# Altium footprint library libreriaPcb.PcbLib: 683 footprints (part 29 of 44)
Each footprint in its own frame and in the unit in brackets; x right, y up, seen from the top. Pads: shape width x height; smd on the part's side, far side on the other; paste and mask are expansions set on the pad; w line width, h text height; cw(c..) or ccw(c..) is an arc to the next point about the centre after c.
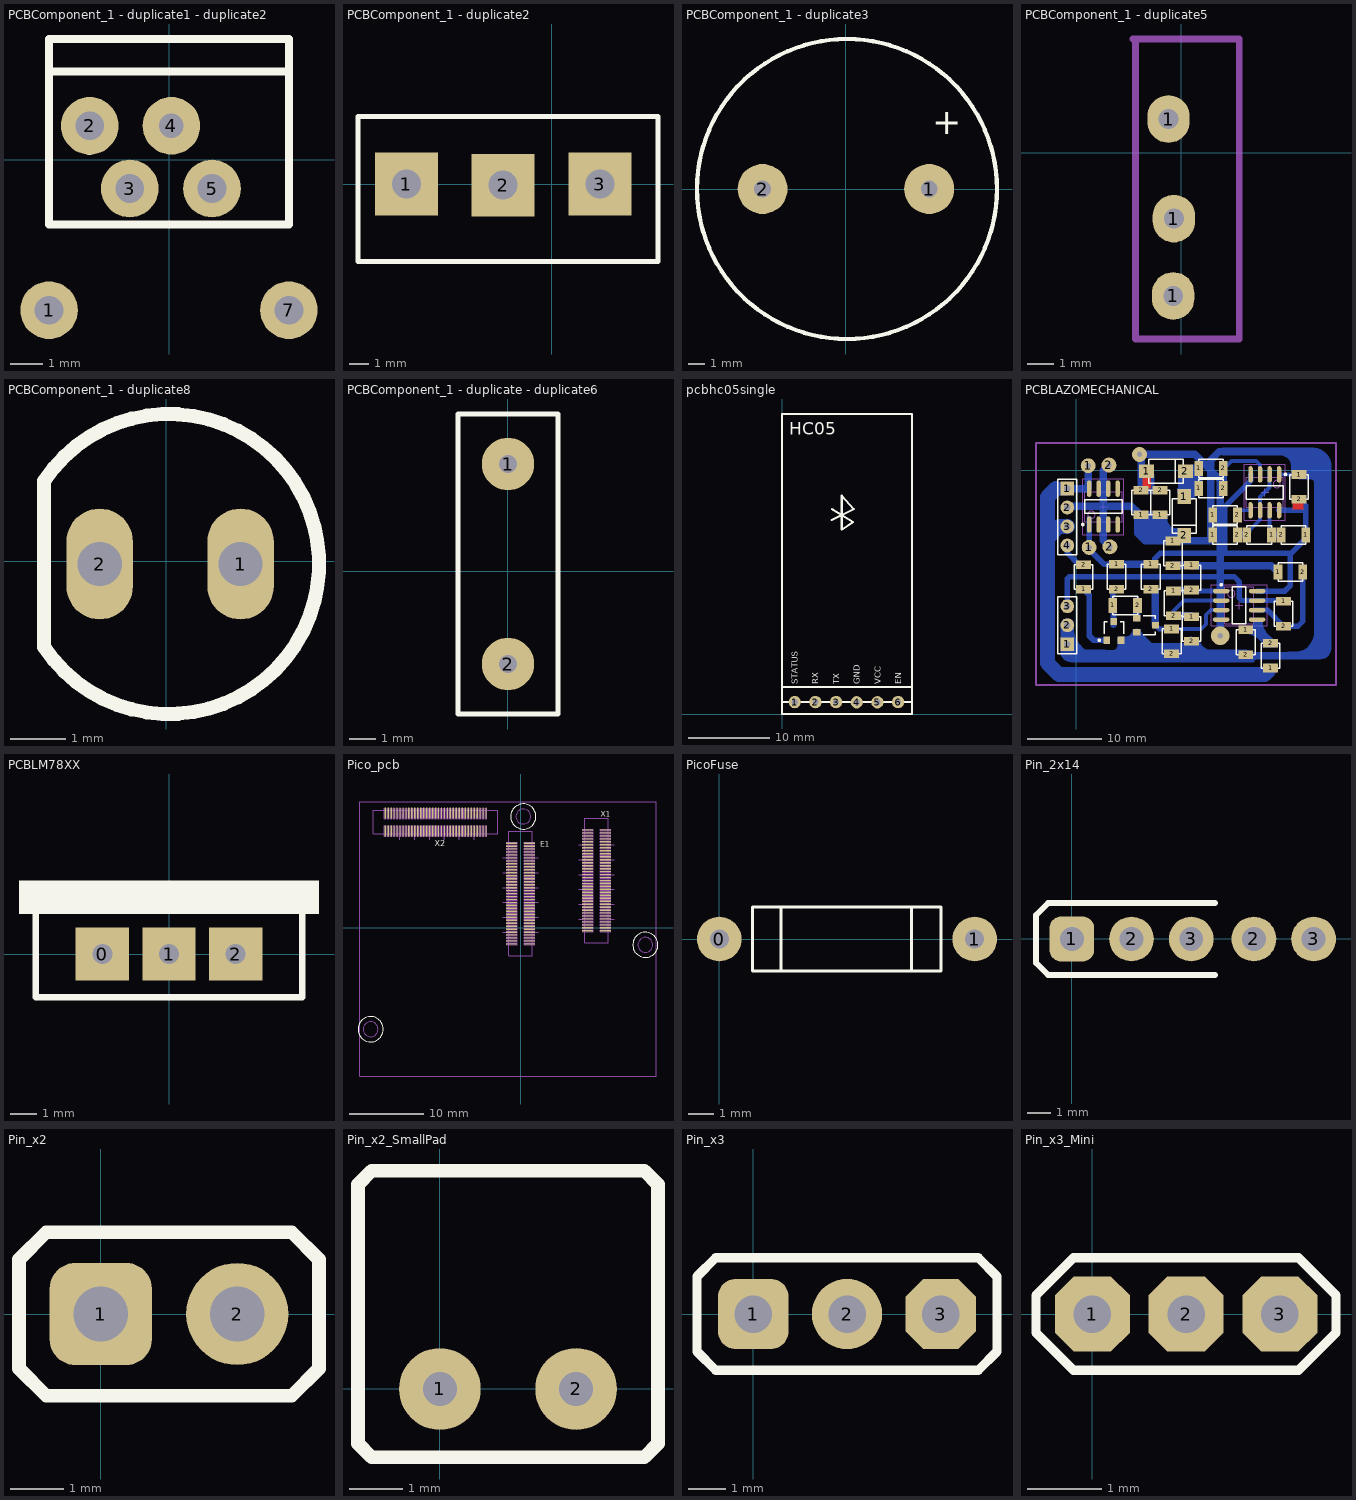
[diagram p28: the footprints below, top view; thin cyan lines are the x and y axes]

## PCBComponent_1 - duplicate1 - duplicate2 [mm]
pads (6):
  round 1.8 hole 0.9: 1(-3.759,-4.693) 2(-2.489,1.067) 3(-1.239,-0.893) 5(1.331,-0.893) 7(3.731,-4.693)
  round 1.8 hole 0.762: 4(0.061,1.067)
Top Overlay:
  lines w0.254: -3.679,3.777 3.731,3.777 ; -2.783,3.773 -3.759,3.773 -3.759,2.757 ; -2.509,0.287 -2.489,0.287 ; 2.841,3.777 3.731,3.777 ; -3.759,2.757 -3.759,-2.013 3.731,-2.013 3.731,2.757 ; -3.759,2.757 3.731,2.757 ; 3.731,2.757 3.731,3.777
3D body: height 3.8, standoff 2.2, extent 2.896,-4.642 4.496,-0.642
3D body: height 3.7, standoff 0, extent 2.918,-5.55 4.518,-3.95
3D body: height 3.7, standoff 0, extent -4.499,-5.499 -2.899,-3.899
3D body: height 5, standoff 0, extent 0.53,-1.739 2.13,-0.14
3D body: height 5, standoff 0, extent -2.035,-1.714 -0.435,-0.115
3D body: height 5, standoff 0, extent -0.791,0.267 0.809,1.866
3D body: height 13, standoff 5, extent -3.759,-2.013 3.731,3.773
3D body: height 19, standoff 13, extent -3.785,2.757 3.705,3.777
3D body: height 5, standoff 0, extent -3.302,0.287 -1.702,1.886
3D body: height 5, standoff 3, extent -4.521,-1.753 -2.921,-0.153
3D body: height 5, standoff 3, extent 2.896,-1.778 4.496,-0.178
3D body: height 3.8, standoff 2.2, extent -4.534,-4.584 -2.934,-0.584

## PCBComponent_1 - duplicate2 [mm]
pads (3):
  rect 3.25x3.25 hole 1.5: 1(-7.5,0) 2(-2.5,-0.054) 3(2.5,0)
Top Overlay:
  lines w0.254: -10,-4 5.5,-4 5.5,3.5 -10,3.5 -10,-4
3D body: height 3, standoff 0, extent -9.827,-4.127 5.5,3.627
3D body: height 12, standoff 0, extent -10,-3.907 5.5,-3.5
3D body: height 12, standoff 0, extent -10,2.4 -4.986,3.537
3D body: height 12, standoff 0, extent -5,2.4 0.014,3.537
3D body: height 12, standoff 0, extent 0,2.4 5.014,3.537
3D body: height 10, standoff -2, extent -8.194,-0.698 -6.8,0.699
3D body: height 10, standoff -2, extent -3.194,-0.752 -1.8,0.645
3D body: height 10, standoff -2, extent 1.806,-0.698 3.2,0.699

## PCBComponent_1 - duplicate3 [mm]
pads (2):
  round 3 hole 1: 1(5,0) 2(-5,0)
Top Overlay:
  circle w0.254: c0.066,0 r9
  text "+" at 5.19,3.28 h1.52

## PCBComponent_1 - duplicate5 [mm]
pads (3):
  oval 1.6x1.8 hole 0.75: 1(-0.483,1.27) 1(-0.305,-5.41) 1(-0.279,-2.489)
Mechanical 1:
  lines w0.254: -1.829,4.293 2.184,4.293 2.184,-7.036 -1.727,-7.036 -1.727,4.293

## PCBComponent_1 - duplicate8 [mm]
pads (2):
  oval 1.2x2 hole 0.8: 1(1.342,-0.053) 2(-1.198,-0.053)
Top Overlay:
  lines w0.254: -2.198,-1.553 ccw(c0.052,-0.053) -2.198,1.447 -2.198,-1.553
3D body: height 0.5, standoff -0.5, extent 0.842,-0.553 1.842,0.447
3D body: height 0.5, standoff -0.5, extent -1.698,-0.553 -0.698,0.447
3D body: height -0.5, standoff -8.5, extent -2.427,-2.553 2.571,2.447

## PCBComponent_1 - duplicate - duplicate6 [mm]
pads (2):
  round 2 hole 0.7: 1(0,4.089) 2(0,-3.531)
Top Overlay:
  lines w0.2: -1.905,-5.436 -1.905,5.994 1.905,5.994 1.905,-5.436 -1.905,-5.436
3D body: height 12.3, standoff 1.7, extent -1.501,-4.97 1.499,5.63
3D body: height 4, standoff 0, extent -0.349,3.74 0.35,4.44
3D body: height 4, standoff 0, extent -0.349,-3.88 0.35,-3.18

## pcbhc05single [mil]
pads (6):
  round 60 hole 30: 1(61.02,57.91) 2(161.42,57.91) 3(261.81,57.91) 4(362.2,56.93) 5(462.6,56.93) 6(562.99,58.07)
Top Overlay:
  lines w10: 0,58.07 629.92,58.07 ; 0,130.91 629.92,130.91 ; 240.94,942.17 348.43,995.91 289.37,1060.87 289.37,895.51 344.49,932.91 241.47,995.46 ; 352.2,56.93 372.2,56.93 ; 362.2,46.93 362.2,66.93 ; 0,0 629.92,0 629.92,1457.68 0,1457.68 0,1296.26 0,0
  text "EN" at 577.76,143.54 h29.53
  text "VCC" at 478.35,143.54 h29.53
  text "GND" at 376.97,143.54 h29.53
  text "TX" at 277.56,143.54 h29.53
  text "RX" at 174.21,143.54 h29.53
  text "STATUS" at 76.77,143.54 h29.53
  text "HC05" at 34.45,1357.13 h60

## PCBLAZOMECHANICAL [mm]
pads (89):
  rect 1.85x1.85 hole 0.9: 1(-1.219,-23.266) 1(-1.219,-2.438)
  rect 2x1.15 smd: 1(0.95,-15.909) 1(5.375,-12.589) 1(8.663,-5.964) 1(9.947,-12.589) 1(11.203,-5.964) 1(12.741,-21.225) 1(12.902,-9.453) 1(12.995,-16.145) 1(15.408,-19.574) 1(15.408,-12.716) 1(22.647,-21.352) 1(25.969,-26.45) 1(27.718,-17.542) 1(29.793,-0.563) 2(0.95,-12.609) 2(5.375,-15.889) 2(8.663,-2.664) 2(9.947,-15.889) 2(11.203,-2.664) 2(12.741,-24.525) 2(12.902,-12.753) 2(12.995,-19.445) 2(15.408,-22.874) 2(15.408,-16.016) 2(22.647,-24.652) 2(25.969,-23.15) 2(27.718,-20.842) 2(29.793,-3.863)
  round 2 hole 0.7: 1(1.575,0.61) 1(1.702,-10.312) 2(4.345,0.69) 2(4.472,-10.232)
  oval 0.6x2.2 smd: 1(1.702,-7.251) 1(27.102,-0.546) 2(2.972,-7.251) 2(25.832,-0.546) 3(4.242,-7.251) 3(24.562,-0.546) 4(5.512,-7.251) 4(23.292,-0.546) 5(5.512,-2.451) 5(23.292,-5.346) 6(4.242,-2.451) 6(24.562,-5.346) 7(2.972,-2.451) 7(25.832,-5.346) 8(1.702,-2.451) 8(27.102,-5.346)
  rect 0.9x0.95 smd: 1(4.054,-22.738) 2(5.954,-22.738) 3(5.004,-20.238)
  rect 1.15x2 smd: 1(4.868,-18.069) 1(16.337,-2.414) 1(16.337,0.253) 1(18.242,-8.637) 1(18.242,-5.97) 1(26.095,-8.651) 1(26.966,-13.624) 1(30.667,-8.651) 2(8.168,-18.069) 2(19.637,-2.414) 2(19.637,0.253) 2(21.542,-8.637) 2(21.542,-5.97) 2(22.795,-8.651) 2(27.367,-8.651) 2(30.266,-13.624)
  rect 0.95x0.9 smd: 1(8.072,-19.776) 2(8.072,-21.676) 3(10.572,-20.726)
  rect 2x1.8 smd: 1(9.389,-0.152) 2(14.589,-0.152)
  rect 1.8x2 smd: 1(14.402,-3.521) 2(14.402,-8.721)
  oval 2.2x0.6 smd: 1(19.368,-16.154) 2(19.368,-17.424) 3(19.368,-18.694) 4(19.368,-19.964) 5(24.168,-19.964) 6(24.168,-18.694) 7(24.168,-17.424) 8(24.168,-16.154)
  round 1.85 hole 0.9: 2(-1.219,-20.726) 2(-1.219,-4.978) 3(-1.219,-18.186) 3(-1.219,-7.518) 4(-1.219,-10.058)
via 8.433,2.134 diameter 2 hole 0.711
via 19.228,-22.123 diameter 2.5 hole 0.711
Top Layer:
  rectangle: 8.814,-2.438 9.957,-0.914
  rectangle: 28.88,-5.232 30.404,-4.089
  lines w0.7: 12.995,-16.145 cw(c13.306,-16.457) 13.306,-16.016
  lines w1: 15.408,-12.716 ccw(c15.497,-12.627) 15.497,-12.753
Bottom Layer:
  region: 24.763,-20.039 24.806,-20.082 24.873,-20.182 24.919,-20.294 24.943,-20.412 24.943,-20.472 24.952,-20.653 25.022,-21.006 25.16,-21.34 25.36,-21.639 25.482,-21.773 26.07,-22.362 26.137,-22.423 26.287,-22.523 26.454,-22.592 26.631,-22.627 26.721,-22.631 26.781,-22.692 26.876,-22.834 26.941,-22.992 26.975,-23.159 26.975,-23.52 26.945,-23.551 26.874,-23.598 26.795,-23.631 26.711,-23.647 24.943,-23.647 24.943,-23.499 24.939,-23.414 24.905,-23.247 24.84,-23.09 24.746,-22.948 24.689,-22.885 24.417,-22.613 24.232,-22.446 23.818,-22.169 23.358,-21.979 22.87,-21.882 22.621,-21.869 22.315,-21.869 22.29,-21.742 22.508,-21.652 22.808,-21.452 22.942,-21.331 23.546,-20.726 23.603,-20.663 23.624,-20.632 23.697,-20.522 23.762,-20.365 23.796,-20.198 23.8,-20.113 23.8,-20.091 24.382,-20.091 24.425,-20.089 24.508,-20.073 24.587,-20.04 24.654,-19.995
  region: 16.197,0.698 16.268,0.626 16.307,0.533 16.307,-1.803 16.307,-2.444 16.307,-2.57 16.211,-2.801 16.034,-2.978 15.803,-3.073 13.513,-3.073 13.513,-2.438 13.538,-2.436 13.583,-2.417 13.618,-2.382 13.637,-2.336 13.64,-2.311 13.64,-1.168 13.64,-1.051 13.64,-1.041 13.652,-0.919 13.713,-0.613 13.857,-0.266 14.065,0.046 14.33,0.311 14.642,0.52 14.989,0.663 15.357,0.737 16.103,0.737
  region: 12.061,-5.506 12.096,-5.541 12.116,-5.588 12.116,-6.502 12.122,-6.627 12.17,-6.871 12.266,-7.101 12.404,-7.308 12.58,-7.484 12.787,-7.622 13.017,-7.718 13.261,-7.766 13.386,-7.772 14.075,-7.772 14.127,-7.899 14.085,-7.942 14.028,-8.079 14.021,-8.153 14.021,-8.661 14.021,-8.736 13.992,-8.884 13.934,-9.022 13.851,-9.147 13.745,-9.253 13.62,-9.337 13.481,-9.394 13.334,-9.423 9.578,-9.423 9.332,-9.375 9.101,-9.279 8.893,-9.14 8.716,-8.963 8.577,-8.755 8.482,-8.524 8.433,-8.278 8.433,-6.375 8.439,-6.258 8.467,-6.116 8.534,-5.954 8.631,-5.809 8.755,-5.685 8.901,-5.588 9.062,-5.521 9.234,-5.486 12.014,-5.486
  region: 32.288,2.925 32.75,2.734 33.166,2.456 33.52,2.102 33.798,1.686 33.989,1.223 34.087,0.733 34.087,0.483 34.087,-23.774 34.087,-23.925 34.028,-24.219 33.913,-24.496 33.747,-24.746 33.534,-24.958 33.285,-25.125 33.007,-25.24 32.713,-25.298 28.499,-25.298 28.266,-25.202 28.087,-25.023 27.991,-24.79 27.991,-24.663 27.991,-24.588 28.049,-24.448 28.156,-24.34 28.296,-24.282 29.261,-24.282 29.51,-24.27 29.998,-24.173 30.458,-23.982 30.872,-23.706 31.224,-23.354 31.501,-22.94 31.691,-22.48 31.789,-21.991 31.801,-21.742 31.801,-18.186 31.801,-1.676 31.791,-1.577 31.715,-1.394 31.575,-1.254 31.392,-1.178 31.293,-1.168 29.783,-1.168 29.562,-1.124 29.354,-1.038 29.167,-0.913 29.008,-0.754 28.883,-0.567 28.797,-0.359 28.753,-0.138 28.753,-0.025 28.753,0.483 28.745,0.632 28.687,0.925 28.573,1.201 28.407,1.449 28.196,1.661 27.947,1.827 27.671,1.941 27.378,1.999 27.229,2.007 19.508,2.007 19.321,2.084 19.178,2.227 19.101,2.414 19.101,2.515 19.101,2.616 19.178,2.802 19.321,2.945 19.508,3.023 31.797,3.023
  region: -0.987,-19.86 -0.771,-19.95 -0.585,-20.092 -0.443,-20.278 -0.353,-20.494 -0.324,-20.719 -0.33,-20.726 -0.33,-20.853 -0.342,-21.452 -0.293,-21.95 -0.148,-22.429 0.088,-22.87 0.405,-23.257 0.422,-23.257 0.935,-23.78 1.116,-23.919 1.327,-24.006 1.553,-24.036 1.553,-24.028 3.861,-24.028 4.877,-24.041 5.125,-23.992 5.335,-23.851 5.475,-23.641 5.524,-23.393 5.512,-23.393 5.502,-22.43 5.681,-22.251 6.528,-22.259 6.793,-22.224 7.04,-22.122 7.252,-21.959 7.415,-21.747 7.518,-21.5 7.553,-21.234 8.552,-21.234 8.583,-21.475 8.676,-21.698 8.824,-21.89 8.835,-21.89 9.951,-23.018 10.094,-23.114 10.263,-23.148 10.263,-23.139 14.402,-23.139 14.62,-23.152 15.118,-23.103 15.596,-22.957 16.038,-22.722 16.22,-22.572 16.455,-22.669 16.458,-22.701 16.552,-23.012 16.705,-23.299 16.912,-23.55 17.163,-23.757 17.45,-23.91 17.761,-24.005 18.085,-24.036 18.085,-24.028 18.339,-24.028 22.784,-24.022 22.983,-24.048 23.168,-24.125 23.327,-24.247 23.449,-24.406 23.526,-24.591 23.552,-24.79 24.943,-24.79 25.197,-24.78 25.395,-24.82 25.563,-24.932 25.658,-25.074 25.582,-25.215 25.514,-25.298 24.054,-25.293 23.955,-25.313 23.871,-25.369 23.815,-25.453 23.795,-25.552 23.787,-25.581 23.673,-25.679 21.641,-25.679 -0.711,-25.691 -1.076,-25.643 -1.416,-25.503 -1.708,-25.279 -1.931,-24.987 -2.072,-24.647 -2.119,-24.294 -2.108,-24.282 -2.116,-20.726 -2.085,-20.494 -1.996,-20.278 -1.853,-20.092 -1.668,-19.95 -1.451,-19.86 -1.219,-19.83
  lines w0.5: 12.741,-21.225 16.697,-21.225 17.323,-20.599 17.323,-19.329 17.958,-18.694 19.368,-18.694 ; 12.997,-19.447 12.995,-19.445 12.995,-18.831 14.402,-17.424 19.368,-17.424 ; 18.466,-19.964 19.228,-19.964 ; 19.228,-22.123 19.368,-21.983 ; 19.228,-21.983 19.228,-19.964 ; 19.368,-19.964 19.228,-19.964 ; 19.637,0.126 20.756,1.245 24.054,1.245 24.562,0.737 24.562,0.089 ; 21.415,-5.335 23.292,-5.335 ; 23.163,-8.256 23.049,-8.142 24.562,-6.629 24.562,-5.346 24.562,-3.581 25.832,-2.311 25.832,0.089 ; 25.832,-9.286 25.832,-5.346 ; 27.102,-0.546 29.776,-0.546 29.793,-0.563 32.787,-0.563 32.817,-0.533 ; 27.102,-0.406 27.102,0.089 ; 32.817,0.61 32.944,0.737
  lines w0.7: -1.219,-18.186 -1.219,-15.646 -1.219,-14.503 -0.965,-14.249 0.178,-14.249 21.133,-14.249 21.768,-14.884 21.768,-17.043 22.149,-17.424 26.848,-17.424 26.966,-17.542 27.718,-17.542 ; 10.572,-20.726 11.071,-21.225 12.741,-21.225 ; 15.419,-16.154 19.368,-16.154 ; 22.644,-21.349 22.647,-21.352 22.647,-21.498 ; 23.8,-18.694 24.168,-18.694 25.578,-18.694 27.737,-20.853 27.991,-20.853 ; 27.718,-20.842 27.991,-20.853 ; 30.266,-13.624 30.267,-13.625 30.267,-20.228 29.642,-20.853 27.991,-20.853
  lines w0.75: -1.219,-10.058 -1.219,-11.074 0.316,-12.609 0.95,-12.609 ; 0.95,-15.909 1.712,-16.671 1.712,-22.133 2.317,-22.738 4.054,-22.738 ; 1.702,-6.489 1.702,-10.566 3.725,-12.589 4.496,-12.589 ; 4.74,-15.889 4.868,-16.017 4.868,-17.815 ; 4.964,-20.726 4.964,-17.814 ; 10.455,-12.589 10.455,-11.846 11.227,-11.074 19.863,-11.074 19.863,-4.851 23.292,-1.422 23.292,-0.533 ; 19.99,-11.074 28.626,-11.074 ; 22.644,-21.349 24.181,-21.349 ; 24.168,-16.154 27.864,-16.154 28.626,-15.392 28.626,-11.074 ; 24.181,-20.218 24.181,-21.349 ; 25.969,-23.15 24.181,-21.362 24.181,-21.349 ; 26.095,-8.651 27.367,-8.651 ; 27.102,-5.346 30.654,-5.346 30.667,-5.359 ; 29.793,-3.863 30.667,-4.737 30.667,-5.359 ; 28.626,-11.074 28.753,-11.074 30.667,-9.16 30.667,-8.651 30.667,-5.359
  lines w0.8: 13.306,-16.016 15.408,-16.016
  lines w1: -1.346,-4.978 -1.156,-4.788 3.607,-4.788 ; -1.346,-2.438 -1.333,-2.451 1.435,-2.451 1.575,-2.311 1.575,0.61 1.418,0.453 ; 0.305,-24.79 10.338,-24.79 ; 4.345,0.69 3.607,-0.048 3.607,-4.788 ; 4.472,-10.232 3.607,-9.367 3.607,-4.788 ; 4.496,-12.589 4.74,-12.589 9.947,-12.589 ; 5.954,-22.738 8.052,-22.738 8.072,-22.758 8.072,-21.676 ; 8.041,-19.745 8.041,-17.434 ; 8.433,-22.885 10.338,-24.79 ; 8.663,-5.964 11.203,-5.964 ; 9.449,-0.152 9.957,-0.66 9.957,-2.664 ; 10.455,-15.889 10.572,-16.006 10.572,-20.726 ; 11.203,-2.664 9.957,-2.664 ; 12.902,-12.753 12.939,-12.716 15.408,-12.716 ; 12.997,-19.447 15.281,-19.447 ; 14.402,-3.521 15.23,-3.521 16.337,-2.414 16.337,0.253 ; 14.529,-0.025 16.337,-0.025 ; 14.656,-9.326 14.529,-9.453 ; 15.281,-22.747 15.418,-22.884 15.418,-24.79 ; 15.497,-12.753 26.095,-12.753 26.966,-13.624 ; 17.958,-9.423 17.958,1.372 19.101,2.515 31.42,2.515 32.817,1.118 32.817,0.61 32.817,-0.533 32.817,-22.504 30.531,-24.79 22.785,-24.79 22.647,-24.652 22.509,-24.79 15.418,-24.79 ; 18.369,-8.256 18.369,-8.939 17.855,-9.453 14.529,-9.453 ; 19.228,-21.983 19.228,-1.295 15.799,2.134 8.433,2.134 8.663,1.904 8.663,-2.664 9.957,-2.664 ; 19.637,-2.414 19.637,0.126 ; 21.542,-8.637 22.795,-8.637 ; 3.607,-4.788 7.353,-4.788 8.179,-5.613 8.179,-6.321 8.209,-6.351 8.209,-8.437 9.225,-9.453 14.529,-9.453 ; 10.338,-24.79 15.418,-24.79
  lines w1.5: -1.219,-20.726 -1.219,-23.266 0.305,-24.79
  lines w1.8: -2.743,-2.438 -1.346,-2.438
  lines w2: -2.743,-2.438 -3.886,-3.581 -3.886,-9.042 ; -1.219,-7.518 -2.362,-7.518 -3.886,-9.042 ; 25.698,-26.815 25.183,-27.33 -2.362,-27.33 -3.886,-25.806 -3.886,-9.042
Top Overlay:
  drawing of 155 lines, arcs and shapes, not listed
Bottom Overlay:
  circle w0.2: c3.102,-10.312 r2.5
  circle w0.2: c2.975,0.61 r2.5
  text "+" at 0.102,-11.502 h1.52
  text "+" at -0.025,-0.58 h1.52
Mechanical 1:
  lines w0.254: -5.41,-28.727 -5.41,3.658 34.722,3.658 34.722,-28.727 -5.41,-28.727
Mechanical 13:
  circle w0.1: c2.007,-5.951 r0.5
  circle w0.1: c26.797,-1.846 r0.5
  circle w0.1: c20.718,-16.509 r0.5
  lines w0.1: 1.107,-6.851 6.107,-6.851 6.107,-2.851 1.107,-2.851 1.107,-6.851 ; 19.818,-20.509 19.818,-15.609 23.718,-15.609 23.718,-20.509 19.818,-20.509 ; 22.697,-4.946 27.697,-4.946 27.697,-0.946 22.697,-0.946 22.697,-4.946
Mechanical 15:
  lines w0.1: 3.107,-4.851 4.107,-4.851 ; 3.607,-5.351 3.607,-4.351 ; 21.268,-18.059 22.268,-18.059 ; 21.768,-18.559 21.768,-17.559 ; 24.697,-2.946 25.697,-2.946 ; 25.197,-3.446 25.197,-2.446 ; 0.857,-8.601 6.357,-8.601 6.357,-1.101 0.857,-1.101 0.857,-8.601 ; 18.018,-20.809 18.018,-15.309 25.518,-15.309 25.518,-20.809 18.018,-20.809 ; 22.447,-6.696 27.947,-6.696 27.947,0.804 22.447,0.804 22.447,-6.696
3D body: height 1.75, standoff 0, extent 1.107,-6.851 6.107,-2.851
3D body: height 1.75, standoff 0, extent 22.697,-4.946 27.697,-0.946
3D body: height 1.75, standoff 0, extent 19.818,-20.509 23.718,-15.609
3D body: height -1.6, standoff -2.4, extent -6.833,-10.458 -0.833,-9.659
3D body: height -1.6, standoff -2.4, extent -6.833,-7.943 -0.833,-7.145
3D body: height -1.6, standoff -2.4, extent -6.858,-5.385 -0.858,-4.586
3D body: height -1.6, standoff -2.4, extent -6.883,-2.838 -0.883,-2.039
3D body: height -1.6, standoff -2.4, extent -6.782,-23.666 -0.782,-22.867
3D body: height -1.6, standoff -2.4, extent -6.782,-21.144 -0.782,-20.345
3D body: height -1.6, standoff -2.4, extent -6.807,-18.56 -0.807,-17.762
3D body: height 0, standoff -2, extent -2.419,-24.486 0.235,-16.815
3D body: height 0, standoff -2, extent -2.521,-11.252 0.133,-1.524
3D body: height 1, standoff 0, extent 9.157,-15.549 10.757,-12.949
3D body: height 1, standoff 0, extent 9.157,-12.949 10.757,-12.649
3D body: height 1, standoff 0, extent 9.157,-15.849 10.757,-15.549
3D body: height 1, standoff 0, extent 0.14,-15.549 1.74,-12.949
3D body: height 1, standoff 0, extent 0.14,-15.849 1.74,-15.549
3D body: height 1, standoff 0, extent 0.14,-12.949 1.74,-12.649
3D body: height 1, standoff 0, extent 5.228,-18.859 7.828,-17.259
3D body: height 1, standoff 0, extent 4.928,-18.859 5.228,-17.259
3D body: height 1, standoff 0, extent 7.828,-18.859 8.128,-17.259
3D body: height 1, standoff 0, extent 4.585,-15.549 6.185,-12.949
3D body: height 1, standoff 0, extent 4.585,-12.949 6.185,-12.649
3D body: height 1, standoff 0, extent 4.585,-15.849 6.185,-15.549
3D body: height 1, standoff 0, extent 14.618,-15.676 16.218,-13.076
3D body: height 1, standoff 0, extent 14.618,-13.076 16.218,-12.776
3D body: height 1, standoff 0, extent 14.618,-15.976 16.218,-15.676
3D body: height 1, standoff 0, extent 21.857,-24.312 23.457,-21.712
3D body: height 1, standoff 0, extent 21.857,-21.712 23.457,-21.412
3D body: height 1, standoff 0, extent 21.857,-24.612 23.457,-24.312
3D body: height 1, standoff 0, extent 25.159,-26.09 26.759,-23.49
3D body: height 1, standoff 0, extent 25.159,-26.39 26.759,-26.09
3D body: height 1, standoff 0, extent 25.159,-23.49 26.759,-23.19
3D body: height 1, standoff 0, extent 26.928,-20.502 28.528,-17.902
3D body: height 1, standoff 0, extent 26.928,-17.902 28.528,-17.602
3D body: height 1, standoff 0, extent 26.928,-20.802 28.528,-20.502
3D body: height 1, standoff 0, extent 27.326,-14.414 29.926,-12.814
3D body: height 1, standoff 0, extent 27.026,-14.414 27.326,-12.814
3D body: height 1, standoff 0, extent 29.926,-14.414 30.226,-12.814
3D body: height 1, standoff 0, extent 23.135,-9.461 25.735,-7.862
3D body: height 1, standoff 0, extent 25.735,-9.461 26.035,-7.862
3D body: height 1, standoff 0, extent 22.835,-9.461 23.135,-7.862
3D body: height 1, standoff 0, extent 27.707,-9.461 30.307,-7.862
3D body: height 1, standoff 0, extent 30.307,-9.461 30.607,-7.862
3D body: height 1, standoff 0, extent 27.407,-9.461 27.707,-7.862
3D body: height 2, standoff 0, extent 9.584,-1.702 14.384,1.398
3D body: height 2, standoff 0, extent 12.852,-8.516 15.952,-3.716
3D body: height 1, standoff 0, extent 12.082,-12.383 13.682,-9.783
3D body: height 1, standoff 0, extent 12.082,-9.783 13.682,-9.483
3D body: height 1, standoff 0, extent 12.082,-12.683 13.682,-12.383
3D body: height 1, standoff 0, extent 7.883,-5.634 9.483,-3.034
3D body: height 1, standoff 0, extent 7.883,-5.934 9.483,-5.634
3D body: height 1, standoff 0, extent 7.883,-3.034 9.483,-2.734
3D body: height 1, standoff 0, extent 10.423,-5.634 12.023,-3.034
3D body: height 1, standoff 0, extent 10.423,-5.934 12.023,-5.634
3D body: height 1, standoff 0, extent 10.423,-3.034 12.023,-2.734
3D body: height 1, standoff 0, extent 16.667,-0.567 19.267,1.033
3D body: height 1, standoff 0, extent 16.367,-0.567 16.667,1.033
3D body: height 1, standoff 0, extent 19.267,-0.567 19.567,1.033
3D body: height 1, standoff 0, extent 16.667,-3.234 19.267,-1.634
3D body: height 1, standoff 0, extent 16.367,-3.234 16.667,-1.634
3D body: height 1, standoff 0, extent 19.267,-3.234 19.567,-1.634
3D body: height 1, standoff 0, extent 18.572,-6.79 21.172,-5.19
3D body: height 1, standoff 0, extent 18.272,-6.79 18.572,-5.19
3D body: height 1, standoff 0, extent 21.172,-6.79 21.472,-5.19
3D body: height 1, standoff 0, extent 28.973,-3.493 30.573,-0.893
3D body: height 1, standoff 0, extent 28.973,-0.893 30.573,-0.593
3D body: height 1, standoff 0, extent 28.973,-3.793 30.573,-3.493
3D body: height 1, standoff 0, extent 18.572,-9.457 21.172,-7.857
3D body: height 1, standoff 0, extent 18.272,-9.457 18.572,-7.857
3D body: height 1, standoff 0, extent 21.172,-9.457 21.472,-7.857
3D body: height 10, standoff 0, extent 0.602,-12.811 5.602,-7.814
3D body: height 10.5, standoff 0, extent 0.802,-12.612 5.402,-8.012
3D body: height 10, standoff 0, extent 5.486,-10.922 5.69,-9.728
3D body: height 10, standoff 0, extent 5.359,0 5.563,1.194
3D body: height 10.5, standoff 0, extent 0.675,-1.69 5.275,2.91
3D body: height 10, standoff 0, extent 0.475,-1.889 5.475,3.108
3D body: height 1, standoff 0, extent 12.205,-19.405 13.805,-19.105
3D body: height 1, standoff 0, extent 12.205,-16.505 13.805,-16.205
3D body: height 1, standoff 0, extent 12.205,-19.105 13.805,-16.505
3D body: height 1, standoff 0, extent 14.618,-22.834 16.218,-22.534
3D body: height 1, standoff 0, extent 14.618,-19.934 16.218,-19.634
3D body: height 1, standoff 0, extent 14.618,-22.534 16.218,-19.934
3D body: height 1, standoff 0, extent 11.951,-24.485 13.551,-24.185
3D body: height 1, standoff 0, extent 11.951,-21.585 13.551,-21.285
3D body: height 1, standoff 0, extent 11.951,-24.185 13.551,-21.585
3D body: height 1, standoff 0, extent -5.461,-28.33 34.849,3.48

## PCBLM78XX [mil]
pads (3):
  rect 80x80 hole 30: 0(-100,0) 1(0,0) 2(100,0)
Top Overlay:
  rectangle: -225,60 225,110
  lines w10: -200,-65 -200,65 200,65 200,-65 -200,-65
3D body: height 759.84, standoff 507.87, extent -197.61,52.04 197,103.18
3D body: height 507.87, standoff 157.48, extent -199.6,-62 198,105.17

## Pico_pcb [mm]
pads (210):
  rect 1.5x0.18 smd: 1(1.193,-2.157) 2(-1.248,-2.158) 3(1.193,-1.756) 4(-1.248,-1.757) 5(1.192,-1.356) 6(-1.249,-1.357) 7(1.192,-0.956) 8(-1.249,-0.957) 9(1.192,-0.556) 10(-1.249,-0.557) 11(1.192,-0.157) 12(-1.249,-0.158) 13(1.192,0.243) 14(-1.249,0.242) 15(1.192,0.643) 16(-1.249,0.642) 17(1.192,1.044) 18(-1.249,1.043) 19(1.192,1.443) 20(-1.249,1.443) 21(1.192,1.844) 22(-1.249,1.843) 23(1.192,2.244) 24(-1.249,2.243) 25(1.192,2.643) 26(-1.249,2.642) 27(1.192,3.043) 28(-1.249,3.042) 29(1.192,3.443) 30(-1.249,3.442) 31(1.192,3.843) 32(-1.249,3.842) 33(1.192,4.243) 34(-1.249,4.242) 35(1.192,4.644) 36(-1.249,4.643) 37(1.192,5.044) 38(-1.249,5.043) 39(1.192,5.444) 40(-1.249,5.443) 41(1.192,5.843) 42(-1.249,5.842) 43(1.192,6.242) 44(-1.249,6.241) 45(1.192,6.643) 46(-1.249,6.642) 47(1.192,7.044) 48(-1.249,7.043) 49(1.192,7.444) 50(-1.249,7.443) 51(1.192,7.842) 52(-1.249,7.841) 53(1.192,8.243) 54(-1.249,8.242) 55(1.192,8.643) 56(-1.249,8.642) 57(1.192,9.043) 57(1.192,11.043) 58(-1.249,9.042) 58(-1.249,11.043) 59(1.192,9.444) 59(1.192,11.443) 60(-1.249,9.443) 61(1.192,9.843) 62(-1.249,9.842) 63(1.192,10.243) 64(-1.249,10.242) 65(1.192,10.643) 66(-1.249,10.642) 70(-1.248,11.442) 101(11.441,-0.391) 102(9,-0.392) 103(11.441,0.01) 104(9,0.009) 105(11.44,0.41) 106(8.999,0.409) 107(11.44,0.81) 108(8.999,0.809) 109(11.44,1.21) 110(8.999,1.209) 111(11.44,1.609) 112(8.999,1.608) 113(11.44,2.009) 114(8.999,2.008) 115(11.44,2.409) 116(8.999,2.408) 117(11.44,2.81) 118(8.999,2.809) 119(11.44,3.21) 120(8.999,3.209) 121(11.44,3.61) 122(8.999,3.609) 123(11.44,4.01) 124(8.999,4.009) 125(11.44,4.409) 126(8.999,4.408) 127(11.44,4.81) 128(9,4.809) 129(11.44,5.209) 130(9,5.208) 131(11.44,5.609) 132(8.999,5.608) 133(11.44,6.009) 134(8.999,6.008) 135(11.44,6.41) 136(8.999,6.409) 137(11.44,6.81) 138(8.999,6.81) 139(11.44,7.21) 140(8.999,7.209) 141(11.44,7.609) 142(8.999,7.608) 143(11.44,8.008) 144(8.999,8.007) 145(11.44,8.409) 146(8.999,8.408) 147(11.44,8.81) 148(8.999,8.809) 149(11.44,9.21) 150(8.999,9.209) 151(11.44,9.608) 152(9,9.608) 153(11.44,10.009) 154(8.999,10.008) 155(11.44,10.409) 156(8.999,10.408) 157(11.44,10.81) 158(8.999,10.809) 159(11.44,11.21) 160(8.999,11.209) 161(11.44,11.609) 162(9,11.609) 163(11.44,12.01) 164(9,12.009) 165(11.44,12.41) 166(9,12.409) 167(11.44,12.81) 168(9,12.809) 169(11.44,13.209) 170(9,13.208)
  rect 0.18x1.5 smd: 201(-4.698,15.511) 202(-4.697,13.071) 203(-5.097,15.511) 204(-5.096,13.071) 205(-5.497,15.511) 206(-5.496,13.071) 207(-5.897,15.511) 208(-5.896,13.071) 209(-6.297,15.511) 210(-6.296,13.071) 211(-6.697,15.512) 212(-6.696,13.071) 213(-7.097,15.512) 214(-7.096,13.071) 215(-7.498,15.512) 216(-7.497,13.071) 217(-7.898,15.512) 218(-7.897,13.071) 219(-8.298,15.511) 220(-8.297,13.071) 221(-8.697,15.512) 222(-8.696,13.071) 223(-9.096,15.512) 224(-9.096,13.071) 225(-9.498,15.512) 226(-9.497,13.071) 227(-9.899,15.512) 228(-9.898,13.071) 229(-10.298,15.512) 230(-10.297,13.071) 231(-10.697,15.512) 232(-10.696,13.071) 233(-11.096,15.512) 234(-11.096,13.071) 235(-11.497,15.512) 236(-11.496,13.071) 237(-11.898,15.512) 238(-11.897,13.071) 239(-12.298,15.512) 240(-12.297,13.071) 241(-12.698,15.511) 242(-12.697,13.071) 243(-13.097,15.511) 244(-13.096,13.071) 245(-13.498,15.512) 246(-13.497,13.071) 247(-13.897,15.512) 248(-13.896,13.071) 249(-14.297,15.512) 250(-14.296,13.071) 251(-14.697,15.512) 252(-14.696,13.071) 253(-15.097,15.512) 254(-15.096,13.071) 255(-15.498,15.512) 256(-15.497,13.071) 257(-15.898,15.512) 258(-15.897,13.071) 259(-16.298,15.512) 260(-16.297,13.071) 261(-16.697,15.512) 262(-16.696,13.071) 263(-17.097,15.512) 264(-17.096,13.071) 265(-17.497,15.512) 266(-17.496,13.071) 267(-17.897,15.511) 268(-17.896,13.07) 269(-18.298,15.511) 270(-18.297,13.07)
Top Overlay:
  circle w0.013: c0.34,15.032 r1.702
  circle w0.013: c16.8,-2.279 r1.702
  circle w0.013: c-20.26,-13.658 r1.702
  text "X2" at -11.616,11.049 h0.79
  text "E1" at 2.616,10.922 h0.76
  text "X1" at 10.747,15.019 h0.76
Mechanical 1:
  circle w0.013: c-20.26,-13.658 r1.003
Mechanical 2:
  circle w0.013: c16.8,-2.279 r1.003
  circle w0.013: c0.34,15.032 r1.003
  lines w0.076: -21.73,-19.988 -21.73,17.012 18.27,17.012 18.27,-19.988 -21.73,-19.988
Mechanical 7:
  lines w0.013: -16.297,11.882 -16.297,12.282 ; -15.868,14.954 -15.868,15.354 ; -14.297,11.882 -14.297,12.282 ; -13.868,14.954 -13.868,15.354 ; -12.297,11.882 -12.297,12.282 ; -11.868,14.954 -11.868,15.354 ; -10.297,11.882 -10.297,12.282 ; -9.868,14.954 -9.868,15.354 ; -8.297,11.882 -8.297,12.282 ; -7.868,14.954 -7.868,15.354 ; -6.297,11.882 -6.297,12.282 ; -5.868,14.954 -5.868,15.354 ; -2.429,-0.558 -2.03,-0.558 ; -2.429,1.442 -2.03,1.442 ; -2.429,3.442 -2.03,3.442 ; -2.429,5.442 -2.03,5.442 ; -2.429,7.442 -2.03,7.442 ; -2.429,9.442 -2.03,9.442 ; 1.97,-0.558 2.37,-0.558 ; 1.97,1.442 2.37,1.442 ; 1.97,3.442 2.37,3.442 ; 1.97,5.442 2.37,5.442 ; 1.97,7.442 2.37,7.442 ; 1.97,9.442 2.37,9.442 ; 7.82,1.208 8.22,1.208 ; 7.82,3.208 8.22,3.208 ; 7.82,5.208 8.22,5.208 ; 7.82,7.208 8.22,7.208 ; 7.82,9.208 8.22,9.208 ; 7.82,11.208 8.22,11.208 ; 12.22,1.208 12.62,1.208 ; 12.22,3.208 12.62,3.208 ; 12.22,5.208 12.62,5.208 ; 12.22,7.208 12.62,7.208 ; 12.22,9.208 12.62,9.208 ; 12.22,11.208 12.62,11.208 ; -19.897,12.712 -3.097,12.712 -3.097,15.852 -19.897,15.852 -19.897,12.712 ; -1.6,-3.758 -1.6,13.042 1.54,13.042 1.54,-3.758 -1.6,-3.758 ; 8.65,-1.992 8.65,14.808 11.79,14.808 11.79,-1.992 8.65,-1.992
  text "1" at -4.459,16.082 h0.79
  text "2" at -4.459,11.682 h0.79
  text "70" at -21.141,12.7 h0.79
  text "69" at -21.014,15.621 h0.79
  text "1" at 1.981,-2.667 h0.76
  text "2" at -2.718,-2.794 h0.76
  text "70" at -1.067,12.192 h0.76
  text "69" at 2.108,12.192 h0.76
  text "1" at 12.268,-0.889 h0.76
  text "2" at 7.569,-0.889 h0.76
  text "70" at 7.188,12.319 h0.76
  text "69" at 12.776,12.827 h0.76
Mechanical 8:
  drawing of 806 lines, arcs and shapes, not listed
3D body: height 1, standoff 0, extent 9.508,-0.645 11.126,13.539
3D body: height 1, standoff 0, extent -0.727,-2.423 0.891,11.761
3D body: height 1, standoff 0, extent -18.56,13.389 -4.376,15.007
3D body: height 2, standoff 0, extent -19.892,12.726 -3.112,15.86
3D body: height 2, standoff 0, extent -1.583,-3.747 1.551,13.033
3D body: height 2, standoff 0, extent 8.654,-1.971 11.788,14.809
3D body: height 0.25, standoff 0, extent -21.73,-19.942 18.226,16.984
3D body: height 0.26, standoff 0, extent -21.259,-14.665 -19.259,-12.665
3D body: height 0.26, standoff 0, extent -0.642,14.041 1.358,16.041
3D body: height 0.26, standoff 0, extent 15.795,-3.277 17.795,-1.277

## PicoFuse [mil]
pads (2):
  round 70 / inner round 0 / far side round 70 hole 30 paste+0: 0(0,0) 1(400,0)
Top Overlay:
  lines w5: 96.46,-50 96.46,49.02 ; 301.18,-50 301.18,50.2 ; 52.17,-50 347.44,-50 347.44,50 52.17,50 52.17,-50

## Pin_2x14 [mil]
pads (5):
  rrect50% 75x75 / inner round 0 / far side rrect50% 75x75 hole 40: 1(0,0)
  round 75 / inner round 0 / far side round 75 hole 40: 2(100,0) 2(305,0) 3(200,0) 3(405,0)
Top Overlay:
  lines w10: 240,-60 -40,-60 -60,-40 -60,40 -40,60 240,60

## Pin_x2 [mil]
pads (2):
  rrect50% 75x75 / inner round 0 / far side rrect50% 75x75 hole 40: 1(0,0)
  round 75 / inner round 0 / far side round 75 hole 40: 2(100,0)
Top Overlay:
  lines w10: -60,-40 -40,-60 140,-60 160,-40 160,40 140,60 -40,60 -60,40 -60,-40

## Pin_x2_SmallPad [mil]
pads (2):
  round 60 / inner round 0 / far side round 60 hole 25: 1(0,0) 2(100,0)
Top Overlay:
  lines w10: -60,-40 -50,-50 150,-50 160,-40 160,150 150,160 -50,160 -60,150 -60,-40

## Pin_x3 [mil]
pads (3):
  rrect50% 75x75 / inner round 0 / far side rrect50% 75x75 hole 40: 1(0,0)
  round 75 / inner round 0 / far side round 75 hole 40: 2(100,0)
  oct 75x75 / inner round 0 / far side oct 75x75 hole 40: 3(200,0)
Top Overlay:
  lines w10: -60,-40 -60,40 -40,60 240,60 260,40 260,-40 240,-60 -40,-60 -60,-40

## Pin_x3_Mini [mil]
pads (3):
  oct 40x40 / inner round 0 / far side oct 40x40 hole 20: 1(0,0) 2(50,0) 3(100,0)
Top Overlay:
  lines w5: -30,-10 -30,10 -10,30 110,30 130,10 130,-10 110,-30 -10,-30 -30,-10